# EAGLE library part 693063020911 (library WR-CRD)
WR-CRD SD Card Connector Push & Pull Short Type with Card Detection 9 pins General Information Operating Temperature -25 °C up to +85 °C Gender Socket Type Push & Pull Electrical Properties Working Voltage 100 V (AC) Withstanding Voltage 500 V (AC) Contact Resistance 100 mΩ Material Properties Insulator Material PA9T Insulator Flammability Rating UL94 V-0 Insulator Color Black Contact Material Copper Alloy Contact Plating Selective Gold Contact Type Stamped Shielding Material Copper Alloy Shielding Plating Nickel (Ni) <https://www.we-online.com/components/media/o33070v209%20Family_WR-CRD_SD%20Kartensockel_Push%20u.%20Pull_kurz_693063020911.jpg> Details see: www.we-online.com/en/components/products/CRD_SD_PUSH_AND_PULL_CRD_DETETCION_SHORT_TYPE_9_PINS <www.we-online.com/catalog/CRD_SD_PUSH_AND_PULL_CRD_DETETCION_SHORT_TYPE_9_PINS/?utm_source=eagle_model&utm_medium=description_link&utm_campaign=eisos_eagle> Updated by Ella 2024-11-14 2024 (C) Würth Elektronik
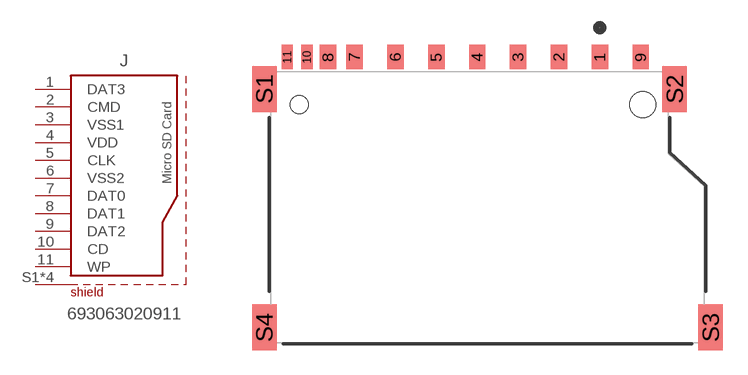
[diagram p16: symbol with the pads of 693063020911; footprint 693063020911]

Designator prefix J

## 693063020911 (DATASHEET-URL: https://www.we-online.com/redexpert/spec/693063020911?ae; GERDER: Socket; IR: 0.5A; MOUNT: SMT; PART-NUMBER: 693063020911; PINS: 9; TYPE: Push & Pull; VALUE: 693063020911; WORKING-VOLTAGE: 100V(AC))  [693063020911]
1  DAT3
2  CMD
3  VSS1
4  VDD
5  CLK
6  VSS2
7  DAT0
8  DAT1
9  DAT2
10  CD
11  WP
S1  SHIELD
S2  SHIELD
S3  SHIELD
S4  SHIELD

## Footprint 693063020911 (pad centres in mm)
WR-CRD SD Card Connector Push & Pull Short Type with Card Detection 9 pins
smd 1 x 1.5: 1 6.875,9.2; 2 4.375,9.2; 3 1.875,9.2; 4 -0.625,9.2; 5 -3.125,9.2; 6 -5.625,9.2; 7 -8.126,9.2; 8 -9.745,9.2; 9 9.375,9.2
smd 0.7 x 1.5: 10 -11.045,9.2; 11 -12.245,9.2
smd 1.5 x 2.8: S1 -13.65,7.25; S2 11.45,7.25; S3 13.65,-7.35; S4 -13.65,-7.35
hole 1.1 at -11.5,6.3
hole 1.6 at 9.5,6.3